# EAGLE library part FS8205A (library TP4056+)
DUAL N-CHANNEL ENHANCEMENT MODE MOSFET
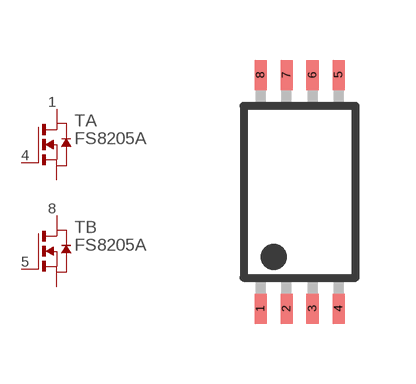
[diagram p2: symbol with the pads of TSSOP-8; footprint TSSOP-8]

Designator prefix T; gates A=N_MOSFET B=N_MOSFET

## FS8205A  [TSSOP-8]
1  A:D  pas
2  A:S  pas
3  A:S  pas
4  A:G  pas
5  B:G  pas
6  B:S  pas
7  B:S  pas
8  B:D  pas

## Footprint TSSOP-8 (pad centres in mm)
Thin Shrink Small Outline Plastic 8 package <http://goo.gl/36CEIY>
smd 0.3 x 0.75: 1 -0.975,-2.925; 2 -0.325,-2.925; 3 0.325,-2.925; 4 0.975,-2.925; 5 0.975,2.925; 6 0.325,2.925; 7 -0.325,2.925; 8 -0.975,2.925